# Altium footprint library AdamsParts.PcbLib: 238 footprints (part 9 of 15)
Each footprint in its own frame and in the unit in brackets; x right, y up, seen from the top. Pads: shape width x height; smd on the part's side, far side on the other; paste and mask are expansions set on the pad; w line width, h text height; cw(c..) or ccw(c..) is an arc to the next point about the centre after c.
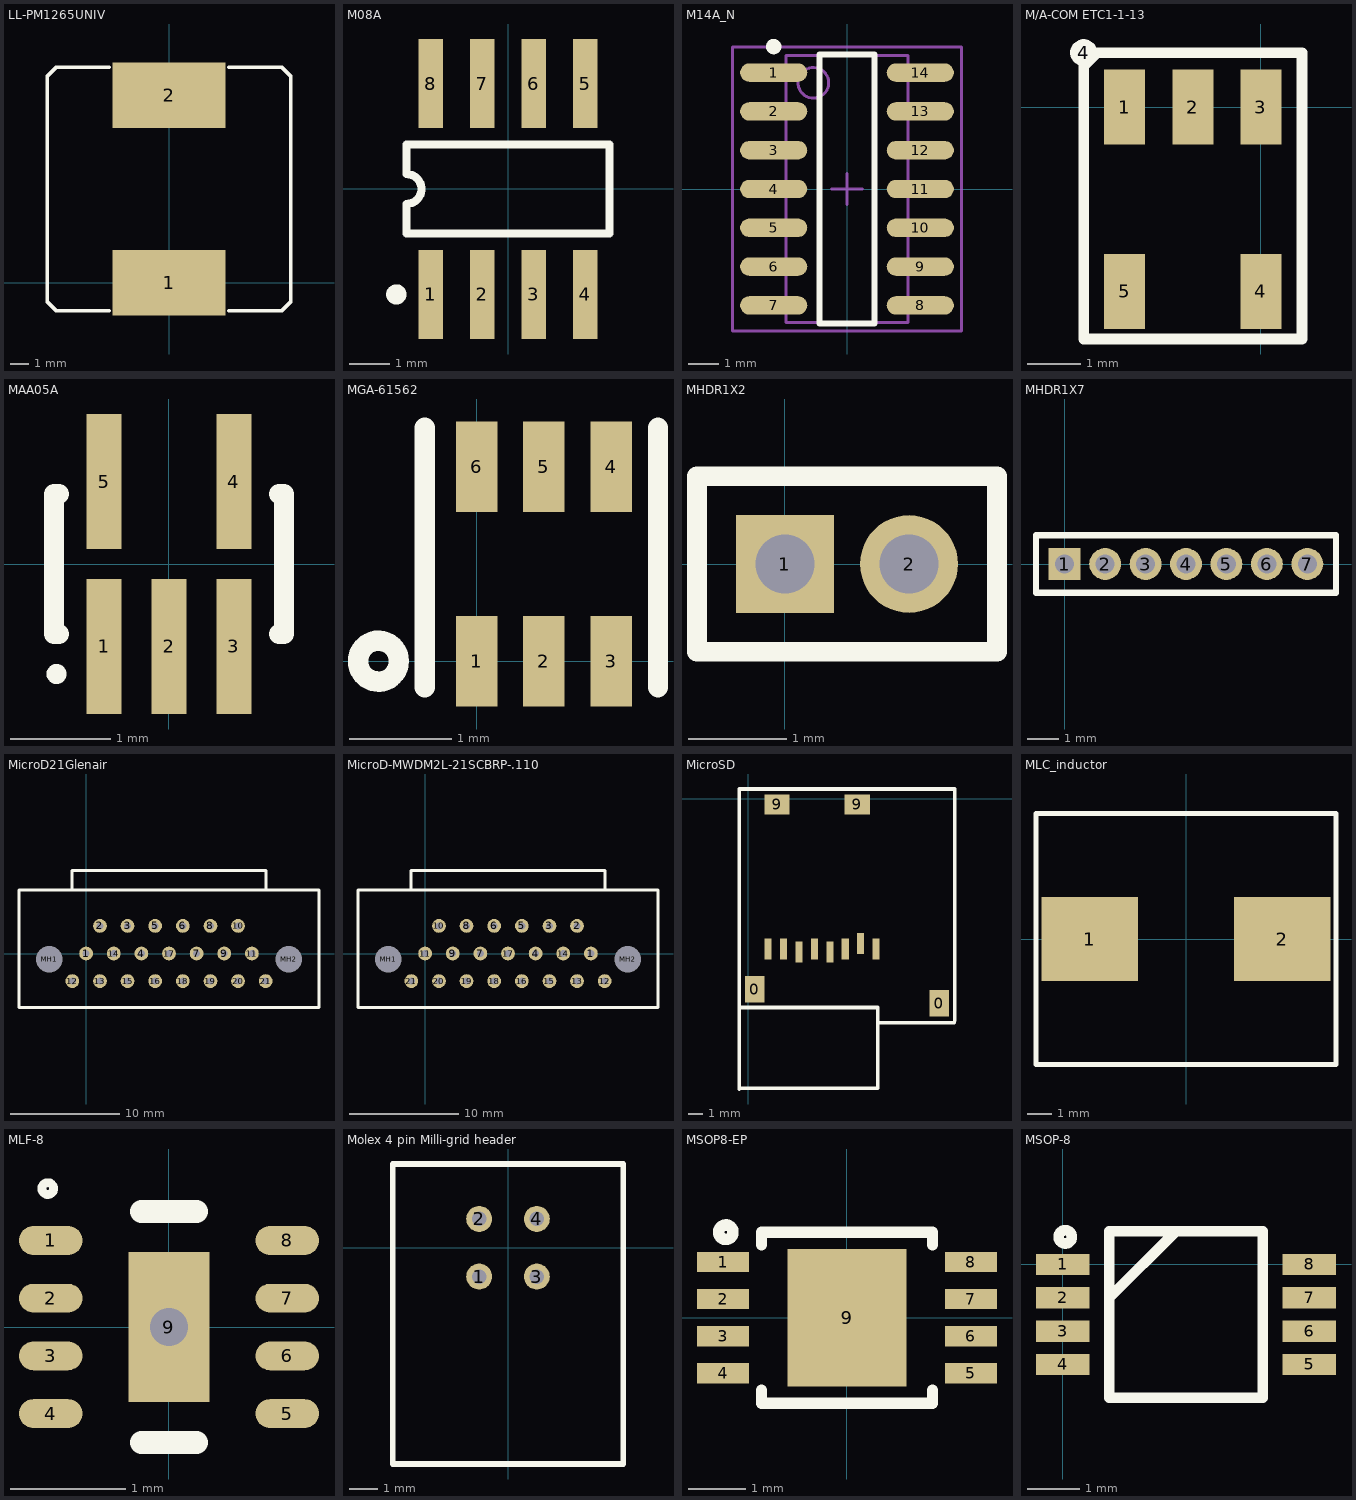
[diagram p8: the footprints below, top view; thin cyan lines are the x and y axes]

## LL-PM1265UNIV [mm]
pads (2):
  rect 6x3.5 smd: 1(0,0) 2(0,10)
Top Overlay:
  lines w0.2: -3.2,-1.5 -6,-1.5 -6.5,-1 -6.5,11 -6,11.5 -3.2,11.5 ; 3.2,-1.5 6,-1.5 6.5,-1 6.5,11 6,11.5 3.2,11.5

## M08A [mm]
pads (8):
  rect 0.6x2.2 smd: 1(-1.905,-2.6) 2(-0.635,-2.6) 3(0.635,-2.6) 4(1.905,-2.6) 5(1.905,2.6) 6(0.635,2.6) 7(-0.635,2.6) 8(-1.905,2.6)
Top Overlay:
  circle w0.25: c-2.755,-2.6 r0.125
  lines w0.2: -2.5,-1.1 2.5,-1.1 2.5,1.1 -2.5,1.1 -2.5,0.367 cw(c-2.5,0) -2.5,-0.367 -2.5,-1.1

## M14A_N [mm]
pads (14):
  oval 2.2x0.6 smd: 1(-2.4,3.81) 2(-2.4,2.54) 3(-2.4,1.27) 4(-2.4,0) 5(-2.4,-1.27) 6(-2.4,-2.54) 7(-2.4,-3.81) 8(2.4,-3.81) 9(2.4,-2.54) 10(2.4,-1.27) 11(2.4,0) 12(2.4,1.27) 13(2.4,2.54) 14(2.4,3.81)
Top Overlay:
  circle w0.25: c-2.4,4.66 r0.125
  lines w0.2: -0.9,-4.4 0.9,-4.4 0.9,4.4 -0.9,4.4 -0.9,-4.4
Mechanical 13:
  circle w0.1: c-1.1,3.475 r0.5
  lines w0.1: -2,-4.375 2,-4.375 2,4.375 -2,4.375 -2,-4.375
Mechanical 15:
  lines w0.1: -0.5,0 0.5,0 ; 0,-0.5 0,0.5 ; -3.75,-4.65 3.75,-4.65 3.75,4.65 -3.75,4.65 -3.75,-4.65
3D body: height 1.75, standoff 0, extent -2,-4.375 2,4.375

## M/A-COM ETC1-1-13 [mil] "RF 1:1: transformer"
pads (6):
  rect 30x55 smd: 1(-100,0) 2(-50,0) 3(0,0) 4(0,-135) 5(-100,-135)
  round 20 on Top Overlay: 4(-130,40)
Top Overlay:
  lines w7.87: -130,-170 -130,30 -120,40 30,40 30,-170 -130,-170

## MAA05A [mm]
pads (5):
  rect 0.35x1.35 smd: 1(-0.65,-0.825) 2(0,-0.825) 3(0.65,-0.825) 4(0.65,0.825) 5(-0.65,0.825)
Top Overlay:
  circle w0.1: c-1.125,-1.1 r0.05
  lines w0.2: -1.1,-0.7 -1.15,-0.7 -1.15,0.7 -1.1,0.7 ; 1.1,-0.7 1.15,-0.7 1.15,0.7 1.1,0.7

## MGA-61562 [mil]
pads (6):
  rect 16x35 smd: 1(0,0) 2(26,0) 3(52,0) 4(52,75) 5(26,75) 6(0,75)
Top Overlay:
  circle w7.87: c-37.87,0 r7.87
  lines w7.87: -20,-10 -20,90 ; 70,-10 70,90

## MHDR1X2 [mm]
pads (2):
  rect 1x1 hole 0.6: 1(0,0)
  round 1 hole 0.6: 2(1.27,0)
Top Overlay:
  lines w0.2: -0.9,-0.9 -0.9,0.9 2.17,0.9 2.17,-0.9 -0.9,-0.9

## MHDR1X7 [mm]
pads (7):
  rect 1x1 hole 0.6: 1(0,0)
  round 1 hole 0.6: 2(1.27,0) 3(2.54,0) 4(3.81,0) 5(5.08,0) 6(6.35,0) 7(7.62,0)
Top Overlay:
  lines w0.2: -0.9,-0.9 -0.9,0.9 8.52,0.9 8.52,-0.9 -0.9,-0.9

## MicroD21Glenair [mil] "Glenair MicroD 21 pin"
pads (23):
  round 50 hole 25: 1(0,0) 2(50,100) 3(150,100) 4(200,0) 5(250,100) 6(350,100) 7(400,0) 8(450,100) 9(500,0) 10(550,100) 11(600,0) 12(-50,-100) 13(50,-100) 14(100,0) 15(150,-100) 16(250,-100) 17(300,0) 18(350,-100) 19(450,-100) 20(550,-100) 21(650,-100)
  round 60 hole 96: MH1(-133,-20) MH2(733,-20)
Top Overlay:
  lines w10: -51,231 -51,300 651,300 651,231 ; -243,-195 -243,230 843,230 843,-195 -243,-195

## MicroD-MWDM2L-21SCBRP-.110 [mil] "Glenair MicroD 21 pin"
pads (23):
  round 50 hole 25: 1(600,0) 2(550,100) 3(450,100) 4(400,0) 5(350,100) 6(250,100) 7(200,0) 8(150,100) 9(100,0) 10(50,100) 11(0,0) 12(650,-100) 13(550,-100) 14(500,0) 15(450,-100) 16(350,-100) 17(300,0) 18(250,-100) 19(150,-100) 20(50,-100) 21(-50,-100)
  round 60 hole 96: MH1(-133,-20) MH2(733,-20)
Top Overlay:
  lines w10: -51,231 -51,300 651,300 651,231 ; -243,-195 843,-195 843,230 -243,230 -243,-195

## MicroSD [mm] "MicroSD card from Multicomp (TFCMF-20815B0T0)"
pads (12):
  rect 1.4x1.9 smd: 0(0.45,-13.55) 0(13.6,-14.55)
  rect 0.5x1.5 smd: 1(9.1,-10.7) 2(8,-10.3) 3(6.9,-10.7) 4(5.8,-10.9) 5(4.7,-10.7) 6(3.6,-10.9) 7(2.5,-10.7) 8(1.4,-10.7)
  rect 1.8x1.4 smd: 9(2.05,-0.4) 9(7.75,-0.4)
Top Overlay:
  lines w0.254: -0.65,-20.65 -0.65,0.7 14.7,0.7 14.7,-15.8 ; -0.6,-20.6 9.2,-20.6 9.2,-15.2 9.2,-14.85 -0.6,-14.85 ; 9.2,-15.95 14.65,-15.95

## MLC_inductor [mm]
pads (2):
  rect 4x3.5 smd: 1(-4,0) 2(4,0)
Top Overlay:
  lines w0.2: -6.223,-5.207 6.223,-5.207 6.223,5.207 -6.223,5.207 -6.223,-5.207

## MLF-8 [mm] "QFN, 8-Leads, Body 2.0x2.0mm (max), Pitch 0.50mm, IPC Medium Density"
height 0.9
pads (9):
  oval 0.55x0.25 smd: 1(-1.025,0.75) 2(-1.025,0.25) 3(-1.025,-0.25) 4(-1.025,-0.75) 5(1.025,-0.75) 6(1.025,-0.25) 7(1.025,0.25) 8(1.025,0.75)
  rect 0.7x1.3 smd: 9(0,0)
via 0,0 diameter 0.66 hole 0.33
Top Overlay:
  circle w0.076: c-1.051,1.2 r0.051
  lines w0.2: -0.238,-1 0.237,-1 ; -0.238,1 0.237,1

## Molex 4 pin Milli-grid header [mm]
pads (4):
  round 0.9 hole 0.5: 1(-1,-1) 2(-1,1) 3(1,-1) 4(1,1)
Top Overlay:
  lines w0.2: -4,-7.5 -4,2.905 4,2.905 4,-7.5 -4,-7.5

## MSOP8-EP [mil]
pads (9):
  rect 36x14 smd: 1(-85.63,38.39) 2(-85.63,12.8) 3(-85.63,-12.8) 4(-85.63,-38.39) 5(85.63,-38.39) 6(85.63,-12.8) 7(85.63,12.8) 8(85.63,38.39)
  rect 82x95 smd: 9(0,0)
Top Overlay:
  circle w7.87: c-83.74,59.06 r5
  lines w7.87: -59.05,-50.2 -59.05,-59.06 59.06,-59.06 59.06,-50.2 ; -59.05,50.2 -59.05,59.06 59.06,59.06 59.06,50.2

## MSOP-8 [mil]
pads (8):
  rect 40x16 smd: 1(0,0) 2(0,-25) 3(0,-50) 4(0,-75) 5(185,-75) 6(185,-50) 7(185,-25) 8(185,0)
Top Overlay:
  circle w7.87: c1.89,20.67 r5
  lines w7.87: 35,-25 85,25 ; 35,-100 35,25 150,25 150,-100 35,-100